# EAGLE library part EPPROM (library dan-nvm)
EEPROM (24 series)
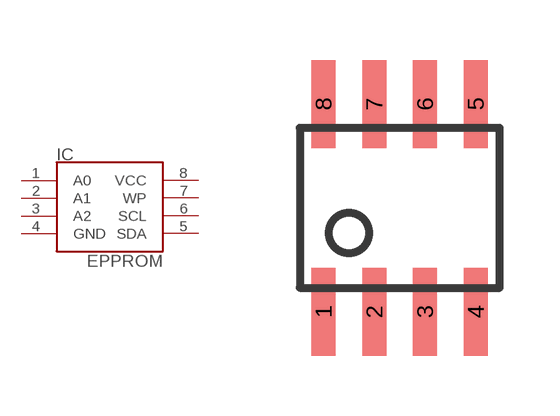
[diagram p0: symbol with the pads of SOIC8; footprint SOIC8]

Designator prefix IC

## EPPROM-SOIC8  [SOIC8]
1  A0  in
2  A1  in
3  A2  in
4  GND  pas
5  SDA
6  SCL
7  WP
8  VCC  pas

## Footprint SOIC8 (pad centres in mm)
SOIC8 From DS90LV001 datasheet: http://cache.national.com/ds/DS/DS90LV001.pdf
smd 0.6 x 2.2: 1 -1.905,-2.6; 2 -0.635,-2.6; 3 0.635,-2.6; 4 1.905,-2.6; 5 1.905,2.6; 6 0.635,2.6; 7 -0.635,2.6; 8 -1.905,2.6